# Altium footprint library DF14A2P125H56.PcbLib: 1 footprints
Each footprint in its own frame and in the unit in brackets; x right, y up, seen from the top. Pads: shape width x height; smd on the part's side, far side on the other; paste and mask are expansions set on the pad; w line width, h text height; cw(c..) or ccw(c..) is an arc to the next point about the centre after c.
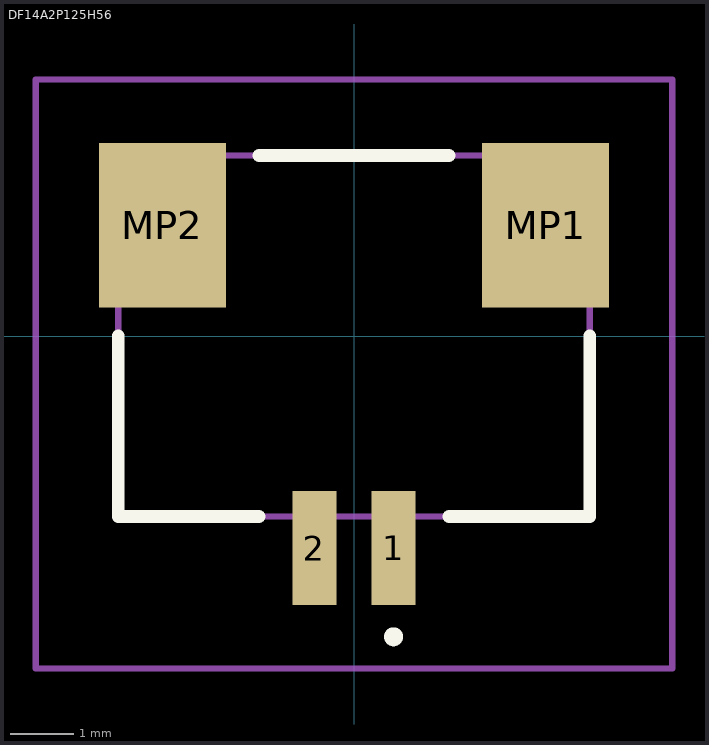
[diagram p0: the footprint, top view; thin cyan lines are the x and y axes]

## DF14A2P125H56 [mm]
pads (4):
  rect 0.7x1.8 smd: 1(0.625,-3.35) 2(-0.625,-3.35)
  rect 2x2.6 smd: MP1(3.025,1.75) MP2(-3.025,1.75)
Top Overlay:
  lines w0.2: -3.725,0 -3.725,-2.85 -1.5,-2.85 ; -1.5,2.85 1.5,2.85 ; 1.5,-2.85 3.725,-2.85 3.725,0 ; 0.625,-4.8 cw(c0.625,-4.75) 0.625,-4.7 ; 0.625,-4.8 0.625,-4.8 ; 0.625,-4.8 ccw(c0.625,-4.75) 0.625,-4.7 ; 0.625,-4.8 cw(c0.625,-4.75) 0.625,-4.7 ; 0.625,-4.7 0.625,-4.7 ; 0.625,-4.7 0.625,-4.7
Mechanical 15:
  lines w0.1: -3.725,-2.85 3.725,-2.85 3.725,2.85 -3.725,2.85 -3.725,-2.85
Mechanical 20:
  lines w0.1: -5.025,-5.25 5.025,-5.25 5.025,4.05 -5.025,4.05 -5.025,-5.25